# EAGLE library part FH19C-8S-0.5SH_10_ (library FH19C-8S-0.5SH_10_)
8 position FFC, FPC connectors Contacts, below 0.020" (0.50mm) Mounting mounting, straight angle , 50V of 50V , 0.5AA , -55C +85C Source: Datasheet <https://www.hirose.com/en/product/document?clcode=CL0580-0404-9-10&productname=FH19C-8S-0.5SH(10)&series=FH19C__FH19SC&documenttype=2DDrawing&lang=en&documentid=0000990634>
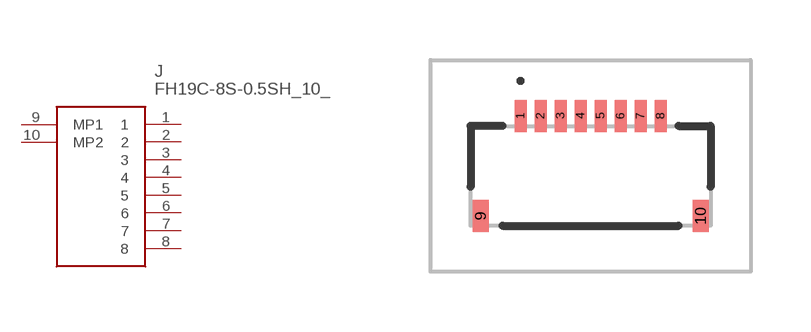
[diagram p0: symbol with the pads of FH19C8S05SH10; footprint FH19C8S05SH10]

Designator prefix J

## FH19C-8S-0.5SH_10_ (Description: 8 position FFC, FPC connectors Contacts, below 0.020" (0.50mm) Mounting mounting, straight angle , 50V of 50V , 0.5AA , -55C +85C; Height: 1mm; Manufacturer_Name: Hirose; Manufacturer_Part_Number: FH19C-8S-0.5SH(10); Mouser_Part_Number: 798-FH19C8S05SH10; Mouser_Price-Stock: https://www.mouser.co.uk/ProductDetail/Hirose-Connector/FH19C-8S-0.5SH10?qs=kDD%2FdQe9TTeGPfcWhk%252BYwQ%3D%3D)  [FH19C8S05SH10]
1  1
2  2
3  3
4  4
5  5
6  6
7  7
8  8
9  MP1
10  MP2

## Footprint FH19C8S05SH10 (pad centres in mm)
FH19C-8S-0.5SH(10)-4
smd 0.3 x 0.8: 1 -1.75,1.375; 2 -1.25,1.375; 3 -0.75,1.375; 4 -0.25,1.375; 5 0.25,1.375; 6 0.75,1.375; 7 1.25,1.375; 8 1.75,1.375
smd 0.4 x 0.8: 9 -2.75,-1.125; 10 2.75,-1.125